# Altium schematic symbol library TUSB8041.SchLib: 1 symbol
Pins are listed as number, name and electrical type; pins without a type are passive.

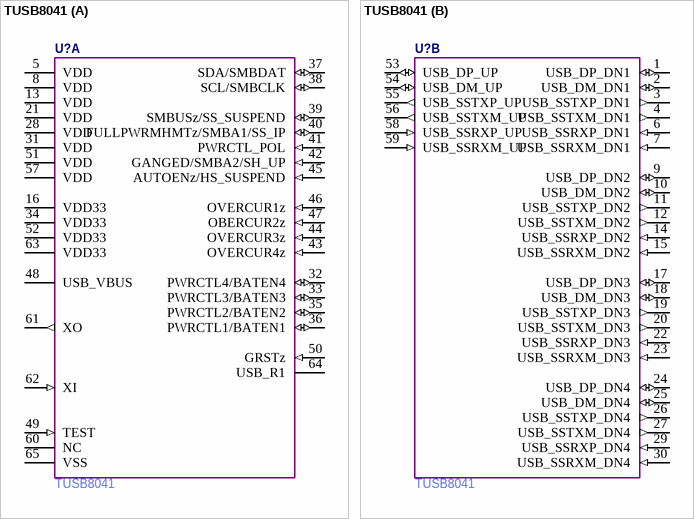
[diagram p0: symbol TUSB8041]

## TUSB8041
designator U?
Manufacturer Part Number: TUSB8041
part A pins: 5 VDD (power) "1V1", 8 VDD (power) "1V1", 13 VDD (power) "1V1", 16 VDD33 (power) "3V3", 21 VDD (power) "1V1", 28 VDD (power) "1V1", 31 VDD (power) "1V1", 32 PWRCTL4/BATEN4 (io), 33 PWRCTL3/BATEN3 (io), 34 VDD33 (power) "3V3", 35 PWRCTL2/BATEN2 (io), 36 PWRCTL1/BATEN1 (io), 37 SDA/SMBDAT (io), 38 SCL/SMBCLK (io), 39 SMBUSz/SS_SUSPEND (io), 40 FULLPWRMHMTz/SMBA1/SS_IP (io), 41 PWRCTL_POL (in), 42 GANGED/SMBA2/SH_UP (in), 43 OVERCUR4z (in), 44 OVERCUR3z (in), 45 AUTOENz/HS_SUSPEND (in), 46 OVERCUR1z (in), 47 OBERCUR2z (in), 48 USB_VBUS, 49 TEST (in), 50 GRSTz (in), 51 VDD (power) "1V1", 52 VDD33 (power) "3V3", 57 VDD (power) "1V1", 60 NC, 61 XO (out), 62 XI (in), 63 VDD33 (power) "3V3", 64 USB_R1, 65 VSS (power)
part B pins: 1 USB_DP_DN1 (io) "DIFF PAIR", 2 USB_DM_DN1 (io) "DIFF PAIR", 3 USB_SSTXP_DN1 (out) "DIFF PAIR", 4 USB_SSTXM_DN1 (out) "DIFF PAIR", 6 USB_SSRXP_DN1 (in) "DIFF PAIR", 7 USB_SSRXM_DN1 (in) "DIFF PAIR", 9 USB_DP_DN2 (io) "DIFF PAIR", 10 USB_DM_DN2 (io) "DIFF PAIR", 11 USB_SSTXP_DN2 (out) "DIFF PAIR", 12 USB_SSTXM_DN2 (out) "DIFF PAIR", 14 USB_SSRXP_DN2 (in) "DIFF PAIR", 15 USB_SSRXM_DN2 (in) "DIFF PAIR", 17 USB_DP_DN3 (io) "DIFF PAIR", 18 USB_DM_DN3 (io) "DIFF PAIR", 19 USB_SSTXP_DN3 (out) "DIFF PAIR", 20 USB_SSTXM_DN3 (out) "DIFF PAIR", 22 USB_SSRXP_DN3 (in) "DIFF PAIR", 23 USB_SSRXM_DN3 (in) "DIFF PAIR", 24 USB_DP_DN4 (io) "DIFF PAIR", 25 USB_DM_DN4 (io) "DIFF PAIR", 26 USB_SSTXP_DN4 (out) "DIFF PAIR", 27 USB_SSTXM_DN4 (out) "DIFF PAIR", 29 USB_SSRXP_DN4 (in) "DIFF PAIR", 30 USB_SSRXM_DN4 (in) "DIFF PAIR", 53 USB_DP_UP (io), 54 USB_DM_UP (io), 55 USB_SSTXP_UP (out), 56 USB_SSTXM_UP (out), 58 USB_SSRXP_UP (in), 59 USB_SSRXM_UP (in)